# EAGLE library part MC34063 (library MC34063)
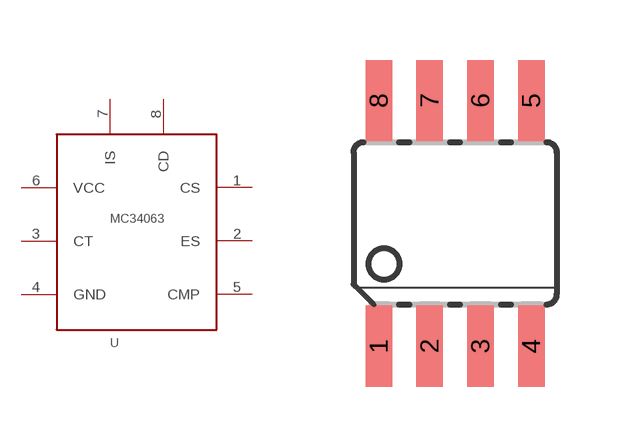
[diagram p0: symbol with the pads of SOIC08; footprint SOIC08]

Designator prefix -

## MC34063  [SOIC08]
1  CS
2  ES
3  CT
4  GND
5  CMP
6  VCC
7  IS
8  CD

## Footprint SOIC08 (pad centres in mm)
Small Outline Package
smd 0.66 x 2.032: 1 -1.905,-3.073; 2 -0.635,-3.073; 3 0.635,-3.073; 4 1.905,-3.073; 5 1.905,3.073; 6 0.635,3.073; 7 -0.635,3.073; 8 -1.905,3.073